# EAGLE library part MKS1857-6-0-707 (library con-stocko)
Serie MKS 1850 Lötstifte In-line, Raster 2.5 mm, Stiftwannen, stehend, mit Rastlasche Source: http://www.stocko.de/de/index.php?seite=ka_rfk2_mks1850.html&rubrik=Katalog+-+RFK+2 rfk_1850.pdf
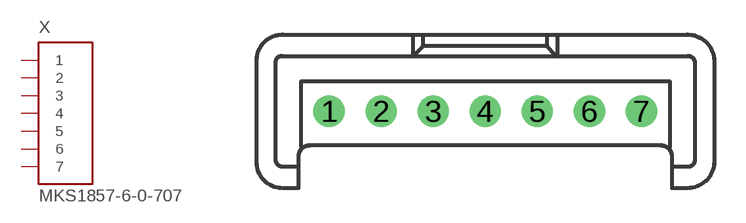
[diagram p0: symbol with the pads of MKS1857-6-0-707; footprint MKS1857-6-0-707]

Designator prefix X

## MKS1857-6-0-707 (OC_FARNELL: unknown; OC_NEWARK: unknown)  [MKS1857-6-0-707]
1  1  in
2  2  in
3  3  in
4  4  in
5  5  in
6  6  in
7  7  in

## Footprint MKS1857-6-0-707 (pad centres in mm)
Serie MKS 1850 Lötstifte In-line, Raster 2.5 mm, Stiftwannen, stehend, mit Rastlasche Source: http://www.stocko.de/de/index.php?seite=ka_rfk2_mks1850.html&rubrik=Katalog+-+RFK+2 rfk_1850.pdf
drill 1 pad 1.422: 1 -7.5,0; 2 -5,0; 3 -2.5,0; 4 0,0; 5 2.5,0; 6 5,0; 7 7.5,0